# Altium integrated library SJ13515n.IntLib: 1 symbol
Pins are listed as number, name and electrical type; pins without a type are passive.

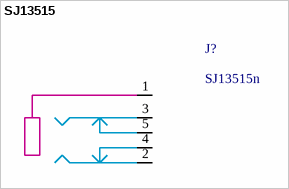
[diagram p0: symbol SJ13515]

## SJ13515
designator J?, comment SJ13515n
3.5 mm jack audio; Publisher: Amirmohammad Naddaf; Published: 28-October-2017; Component'sDatasheetURL: http://www.cui.com/product/resource/pdf/sj1-351xn-series.pdf; LatestRevisionDate: 28-October-2017
footprint SJ13515n (the first edition)
pins: 1, 2, 3, 4, 5